# EAGLE library part LT1959 (library Mine)
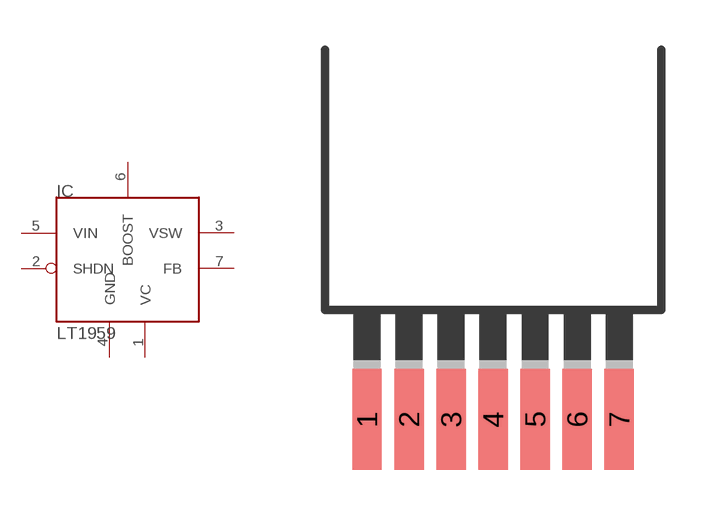
[diagram p23: symbol with the pads of DDPACK-7; footprint DDPACK-7]

Designator prefix IC

## LT1959R  [DDPACK-7]
1  VC  out
2  SHDN  in
3  VSW  out
4  GND  pwr
5  VIN  in
6  BOOST
7  FB  in

## Footprint DDPACK-7 (pad centres in mm)
PLASTIC FLANGE-MOUNT
smd 0.889 x 3.048: 1 -3.81,-8.255; 2 -2.54,-8.255; 3 -1.27,-8.255; 4 0,-8.255; 5 1.27,-8.255; 6 2.54,-8.255; 7 3.81,-8.255